# Altium schematic symbol library SMD Led.SCHLIB: 1 symbol
Pins are listed as number, name and electrical type; pins without a type are passive.

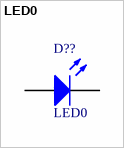
[diagram p0: symbol LED0]

## LED0
designator D??
SMD led; Published: 8-Jun-2000; LatestRevisionDate: 08-Jul-2005; LatestRevisionNote: Mech Layer 1 removed.; PackageReference: LED-0; Publisher: Altium Limited; PackageDescription: LED; 2 Leads
footprint INDC3216 (Chip Inductor, Body 3.2x1.6mm, IPC High Density)
pins: 1 A, 2 K